# Altium schematic symbol library NCP1117ST50T3G.SchLib: 1 symbol
Pins are listed as number, name and electrical type; pins without a type are passive.

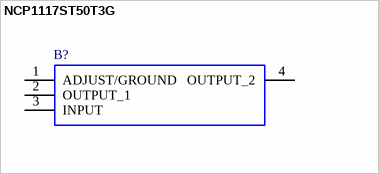
[diagram p0: symbol NCP1117ST50T3G]

## NCP1117ST50T3G
designator B?
ON SEMICONDUCTOR - NCP1117ST50T3G - LDO, REG, 20VIN, 1A, 5V, 1%, SOT223-3; Manufacturer_Name: onsemi; Geometry.Height: 1.8mm; Manufacturer_Part_Number: NCP1117ST50T3G; Mouser Part Number: 863-NCP1117ST50T3G; Mouser Price/Stock: https://www.mouser.co.uk/ProductDetail/onsemi/NCP1117ST50T3G?qs=Gev%252BmEvV0ib6dijy6U0dhQ%3D%3D; Arrow Part Number: NCP1117ST50T3G; Arrow Price/Stock: https://www.arrow.com/en/products/ncp1117st50t3g/on-semiconductor?region=nac; Mouser Testing Part Number: *; Mouser Testing Price/Stock: *; Datasheet Link: http://www.onsemi.com/pub/Collateral/NCP1117-D.PDF
footprint SOT230P700X180-4N
pins: 1 ADJUST/GROUND, 2 OUTPUT_1, 3 INPUT, 4 OUTPUT_2